# EAGLE library part MAX5438 (library ck)
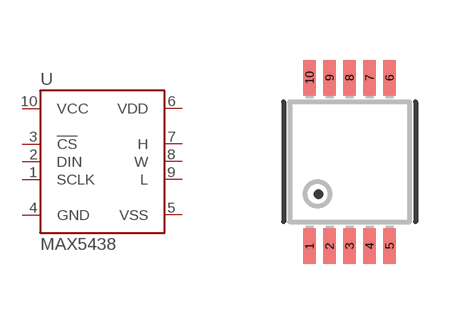
[diagram p1: symbol with the pads of MSOP-10; footprint MSOP-10]

Designator prefix U

## MAX5438  [MSOP-10]
1  SCLK  in
2  DIN  in
3  !CS  in
4  GND  pwr
5  VSS  pwr
6  VDD  pwr
7  H
8  W
9  L
10  VCC  pwr

## Footprint MSOP-10 (pad centres in mm)
smd 0.305 x 0.889: 1 -1,-2.11; 2 -0.5,-2.11; 3 0,-2.11; 4 0.5,-2.11; 5 1,-2.11; 6 1,2.11; 7 0.5,2.11; 8 0,2.11; 9 -0.5,2.11; 10 -1,2.11